# EAGLE library part 621308284521 (library Header_R_ESP32)
2.00mm SMT Angled Dual Pin Header WR-PHD Manufacturer's datasheet <https://katalog.we-online.com/em/datasheet/621308284521.pdf>
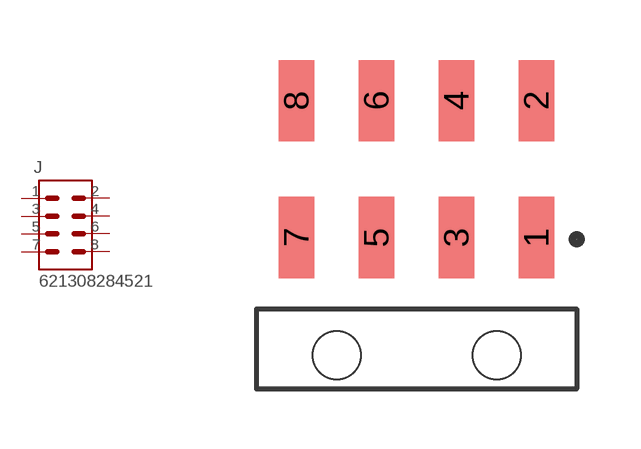
[diagram p13: symbol with the pads of 621308284521; footprint 621308284521]

Designator prefix J

## 621308284521 (CREATED_BY: PCBLayout.com; MANUFACTURER: Wurth Elektronik; MPN: 621308284521)  [621308284521]
1  1  pas
2  2  pas
3  3  pas
4  4  pas
5  5  pas
6  6  pas
7  7  pas
8  8  pas

## Footprint 621308284521 (pad centres in mm)
smd 0.89 x 2.03: 1 3,-1.71; 2 3,1.71; 3 1,-1.71; 4 1,1.71; 5 -1,-1.71; 6 -1,1.71; 7 -3,-1.71; 8 -3,1.71
hole 1.2 at -2,-4.66
hole 1.2 at 2,-4.66